# Altium schematic symbol library Schlib1.SchLib: 1 symbol
Pins are listed as number, name and electrical type; pins without a type are passive.

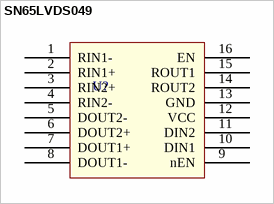
[diagram p0: symbol SN65LVDS049]

## SN65LVDS049
designator U?
footprint SOP127P600-8N
pins: 1 RIN1-, 2 RIN1+, 3 RIN2+, 4 RIN2-, 5 DOUT2-, 6 DOUT2+, 7 DOUT1+, 8 DOUT1-, 9 nEN, 10 DIN1, 11 DIN2, 12 VCC, 13 GND, 14 ROUT2, 15 ROUT1, 16 EN